# Altium footprint library hsbest.PcbLib: 389 footprints (part 10 of 25)
Each footprint in its own frame and in the unit in brackets; x right, y up, seen from the top. Pads: shape width x height; smd on the part's side, far side on the other; paste and mask are expansions set on the pad; w line width, h text height; cw(c..) or ccw(c..) is an arc to the next point about the centre after c.
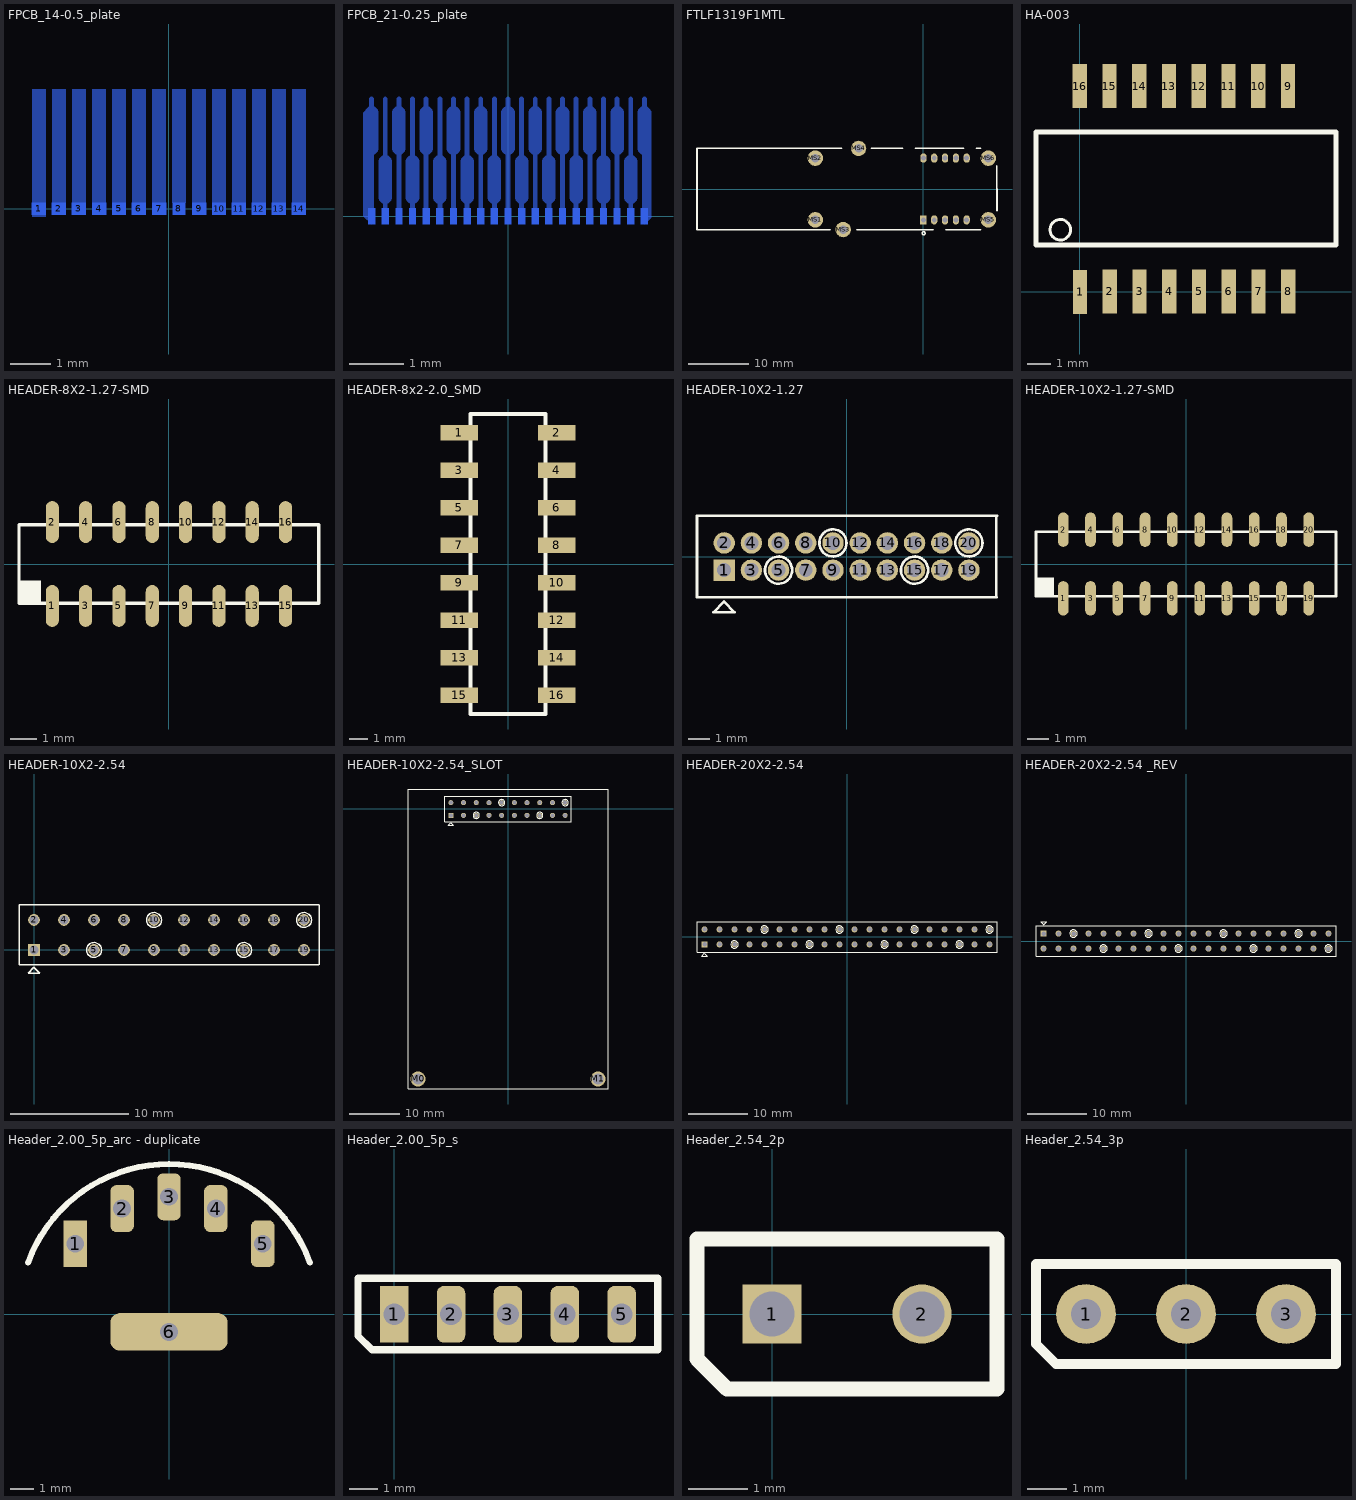
[diagram p9: the footprints below, top view; thin cyan lines are the x and y axes]

## FPCB_14-0.5_plate [mm]
pads (14):
  rect 0.35x0.3 smd far side: 1(-3.25,0) 2(-2.75,0) 3(-2.25,0) 4(-1.75,0) 5(-1.25,0) 6(-0.75,0) 7(-0.25,0) 9(0.75,0) 10(1.25,0) 11(1.75,0) 12(2.25,0) 13(2.75,0) 14(3.25,0)
  rect 0.32x0.3 smd far side: 8(0.25,0)
Bottom Layer:
  rectangle: 3.075,0.15 3.425,3
  rectangle: 2.575,0.15 2.925,3
  rectangle: 2.075,0.15 2.425,3
  rectangle: 1.575,0.15 1.925,3
  rectangle: 1.075,0.15 1.425,3
  rectangle: 0.575,0.15 0.925,3
  rectangle: 0.075,0.15 0.425,3
  rectangle: -0.425,0.15 -0.075,3
  rectangle: -0.925,0.15 -0.575,3
  rectangle: -1.425,0.15 -1.075,3
  rectangle: -1.925,0.15 -1.575,3
  rectangle: -2.425,0.15 -2.075,3
  rectangle: -2.925,0.15 -2.575,3
  rectangle: -3.425,-0.2 -3.075,3
Bottom Overlay:
  lines w0.09: -3.75,-2 3.75,-2 ; -3.75,-1.15 -3.75,3 ; 3.75,-1.15 3.75,3
Bottom Solder:
  rectangle: -3.7,0.25 3.75,3

## FPCB_21-0.25_plate [mm]
pads (21):
  rect 0.125x0.3 smd far side: 1(-2.5,0) 1(-2.25,0) 3(-2,0) 4(-1.75,0) 5(-1.5,0) 6(-1.25,0) 7(-1,0) 8(-0.75,0) 9(-0.5,0) 10(-0.25,0) 11(0,0) 12(0.25,0) 13(0.5,0) 14(0.75,0) 15(1,0) 16(1.25,0) 17(1.5,0) 18(1.75,0) 19(2,0) 20(2.25,0) 21(2.5,0)
Bottom Layer:
  region: 2.5,2.05 2.5,-0.15 2.625,-0.025 2.625,1.925
  region: -2.5,2.05 -2.65,1.9 -2.65,0 -2.5,-0.15
  lines w0.09: -2.5,0 -2.5,2.15 ; -2.25,0 -2.25,2.15 ; -2,0 -2,2.15 ; -1.75,0 -1.75,2.15 ; -1.5,0 -1.5,2.15 ; -1.25,0 -1.25,2.15 ; -1,0 -1,2.15 ; -0.75,0 -0.75,2.15 ; -0.5,0 -0.5,2.15 ; -0.25,0 -0.25,2.15 ; 0,0 0,2.15 ; 0.25,0 0.25,2.15 ; 0.5,0 0.5,2.15 ; 0.75,0 0.75,2.15 ; 1,0 1,2.15 ; 1.25,0 1.25,2.15 ; 1.5,0 1.5,2.15 ; 1.75,0 1.75,2.15 ; 2,0 2,2.15 ; 2.25,0 2.25,2.15 ; 2.5,0 2.5,2.15
  lines w0.25: -2.5,1.25 -2.5,1.9 ; -2.25,0.35 -2.25,1 ; -2,1.25 -2,1.9 ; -1.75,0.35 -1.75,1 ; -1.5,1.25 -1.5,1.9 ; -1.25,0.35 -1.25,1 ; -1,1.25 -1,1.9 ; -0.75,0.35 -0.75,1 ; -0.5,1.25 -0.5,1.9 ; -0.25,0.35 -0.25,1 ; 0,1.25 0,1.9 ; 0.25,0.35 0.25,1 ; 0.5,1.25 0.5,1.9 ; 0.75,0.35 0.75,1 ; 1,1.25 1,1.9 ; 1.25,0.35 1.25,1 ; 1.5,1.25 1.5,1.9 ; 1.75,0.35 1.75,1 ; 2,1.25 2,1.9 ; 2.25,0.35 2.25,1 ; 2.5,1.25 2.5,1.9
Bottom Overlay:
  lines w0.09: -2.75,-1.15 -2.75,2.15 ; -2.5,-1.15 2.5,-1.15 ; 2.75,-1.15 2.75,2.15
Bottom Solder:
  rectangle: -2.675,0.25 2.675,2.125

## FTLF1319F1MTL [mil]
pads (16):
  rect 42x60 hole 32 paste+0 mask+1.97: 1(0,-200)
  oval 40x60 hole 32 paste+0 mask+1.97: 2(70,-200) 3(140,-200) 4(210,-200) 5(280,-200) 6(280,200) 7(210,200) 8(140,200) 9(70,200) 10(0,200)
  round 100 hole 55 paste+0 mask+1.97: MS1(-700,-200) MS2(-700,200) MS3(-520,-262.5) MS4(-420,262.5) MS5(420,-200) MS6(420,200)
Top Overlay:
  circle w10: c0.98,-286.42 r10
  lines w10: -603.35,-265 -1466,-265 -1466,265 -527.56,265 ; -433.07,-265 63,-265 ; -338.58,265 -133.86,265 ; -51.18,265 259.85,265 ; 145.67,-265 372.58,-265 ; 342.52,265 372.58,265 ; 476,149.61 476.38,-140.75

## HA-003 [mil]
pads (16):
  rect 24x74 smd: 1(0.89,-0.42) 2(50.83,0.17) 3(100.83,0.17) 4(150.83,0.17) 5(200.83,0.17) 6(250.83,0.17) 7(300.83,0.17) 8(350.83,0.17) 9(350.28,345.13) 10(300.28,345.13) 11(250.28,345.13) 12(200.28,345.13) 13(150.28,345.13) 14(100.28,345.13) 15(50.28,345.13) 16(0.28,345.13)
Top Overlay:
  circle w5: c-32.35,103.88 r17.27
  lines w8: -73.14,78.41 430.89,78.41 430.89,268.07 -73.14,268.07 -73.14,78.41

## HEADER-8X2-1.27-SMD [mm]
pads (16):
  oval 0.5x1.6 smd: 1(-4.445,-1.6) 2(-4.445,1.6) 3(-3.175,-1.6) 4(-3.175,1.6) 5(-1.905,-1.6) 6(-1.905,1.6) 7(-0.635,-1.6) 8(-0.635,1.6) 9(0.635,-1.6) 10(0.635,1.6) 11(1.905,-1.6) 12(1.905,1.6) 13(3.175,-1.6) 14(3.175,1.6) 15(4.445,-1.6) 16(4.445,1.6)
Top Overlay:
  rectangle: -5.705,-1.5 -4.88,-0.625
  lines w0.125: -5.715,-1.5 -5.715,1.5 5.72,1.5 ; -5.705,-1.5 5.72,-1.5 ; 5.715,-1.5 5.715,1.5

## HEADER-8x2-2.0_SMD [mm]
pads (16):
  rect 2x0.8 smd: 1(-2.6,7) 2(2.6,7) 3(-2.6,5) 4(2.6,5) 5(-2.6,3) 6(2.6,3) 7(-2.6,1) 8(2.6,1) 9(-2.6,-1) 10(2.6,-1) 11(-2.6,-3) 12(2.6,-3) 13(-2.6,-5) 14(2.6,-5) 15(-2.6,-7) 16(2.6,-7)
Top Overlay:
  lines w0.2: -2,-8 2,-8 2,8 -2,8 -2,-8

## HEADER-10X2-1.27 [mm]
pads (20):
  rect 1x1 / inner round 1 / far side rect 1x1 hole 0.65: 1(-5.715,-0.635)
  round 1 hole 0.65: 2(-5.715,0.635) 3(-4.445,-0.635) 4(-4.445,0.635) 5(-3.175,-0.635) 6(-3.175,0.635) 7(-1.905,-0.635) 8(-1.905,0.635) 9(-0.635,-0.635) 10(-0.635,0.635) 11(0.635,-0.635) 12(0.635,0.635) 13(1.905,-0.635) 14(1.905,0.635) 15(3.175,-0.635) 16(3.175,0.635) 17(4.445,-0.635) 18(4.445,0.635) 19(5.715,-0.635) 20(5.715,0.635)
Top Overlay:
  circle w0.125: c5.715,0.635 r0.635
  circle w0.125: c3.175,-0.635 r0.635
  circle w0.125: c-0.635,0.635 r0.635
  circle w0.125: c-3.175,-0.635 r0.635
  lines w0.125: 6.985,-1.905 6.985,1.905 ; 7,-1.905 -6.985,-1.905 -6.985,1.905 7.025,1.905 ; -6.223,-2.604 -5.223,-2.604 -5.723,-2.104 -6.223,-2.604
Multi-Layer:
  lines w0.254: -6.35,0 6.325,0 ; -5.08,-1.27 -5.08,1.27 ; -3.81,-1.27 -3.81,1.27 ; -2.54,-1.27 -2.54,1.27 ; -1.27,-1.27 -1.27,1.27 ; 0,-1.27 0,1.27 ; 1.27,-1.27 1.27,1.27 ; 2.54,-1.27 2.54,1.27 ; 3.81,-1.27 3.81,1.27 ; 5.08,-1.27 5.08,1.27

## HEADER-10X2-1.27-SMD [mm]
pads (20):
  oval 0.5x1.6 smd: 1(-5.715,-1.6) 2(-5.715,1.6) 3(-4.445,-1.6) 4(-4.445,1.6) 5(-3.175,-1.6) 6(-3.175,1.6) 7(-1.905,-1.6) 8(-1.905,1.6) 9(-0.635,-1.6) 10(-0.635,1.6) 11(0.635,-1.6) 12(0.635,1.6) 13(1.905,-1.6) 14(1.905,1.6) 15(3.175,-1.6) 16(3.175,1.6) 17(4.445,-1.6) 18(4.445,1.6) 19(5.715,-1.6) 20(5.715,1.6)
Top Overlay:
  rectangle: -6.975,-1.5 -6.15,-0.625
  lines w0.125: -6.985,-1.5 -6.985,1.5 6.985,1.5 6.985,-1.5 -6.975,-1.5

## HEADER-10X2-2.54 [mm]
pads (20):
  rect 1x1 / inner round 1 / far side rect 1x1 hole 0.762: 1(0,0)
  round 1 hole 0.762: 2(0,2.54) 3(2.54,0) 4(2.54,2.54) 5(5.08,0) 6(5.08,2.54) 7(7.62,0) 8(7.62,2.54) 9(10.16,0) 10(10.16,2.54) 11(12.7,0) 12(12.7,2.54) 13(15.24,0) 14(15.24,2.54) 15(17.78,0) 16(17.78,2.54) 17(20.32,0) 18(20.32,2.54) 19(22.86,0) 20(22.86,2.54)
Top Overlay:
  circle w0.125: c5.08,0 r0.635
  circle w0.125: c10.16,2.54 r0.635
  circle w0.125: c17.78,0 r0.635
  circle w0.125: c22.86,2.54 r0.635
  lines w0.125: -1.27,3.825 -1.27,-1.27 24.1,-1.27 ; -1.25,3.81 24.125,3.81 ; 24.13,-1.25 24.13,3.81 ; -0.508,-1.969 -0.008,-1.469 0.492,-1.969 -0.508,-1.969

## HEADER-10X2-2.54_SLOT [mm]
pads (22):
  rect 1x1 / inner round 1 / far side rect 1x1 hole 0.762: 1(-11.43,-1.27)
  round 1 hole 0.762: 2(-11.43,1.27) 3(-8.89,-1.27) 4(-8.89,1.27) 5(-6.35,-1.27) 6(-6.35,1.27) 7(-3.81,-1.27) 8(-3.81,1.27) 9(-1.27,-1.27) 10(-1.27,1.27) 11(1.27,-1.27) 12(1.27,1.27) 13(3.81,-1.27) 14(3.81,1.27) 15(6.35,-1.27) 16(6.35,1.27) 17(8.89,-1.27) 18(8.89,1.27) 19(11.43,-1.27) 20(11.43,1.27)
  round 3 hole 2.2: M0(-18,-54) M1(18,-54)
Top Overlay:
  circle w0.125: c11.43,1.27 r0.635
  circle w0.125: c6.35,-1.27 r0.635
  circle w0.125: c-1.27,1.27 r0.635
  circle w0.125: c-6.35,-1.27 r0.635
  lines w0.125: -12.7,2.555 -12.7,-2.54 12.67,-2.54 ; -12.68,2.54 12.695,2.54 ; 12.7,-2.52 12.7,2.54 ; -20,-56 20,-56 20,4 -20,4 -20,-56 ; -11.938,-3.239 -10.938,-3.239 -11.438,-2.739 -11.938,-3.239

## HEADER-20X2-2.54 [mm]
pads (40):
  rect 1x1 / inner round 1 / far side rect 1x1 hole 0.762: 1(-24.13,-1.27)
  round 1 hole 0.762: 2(-24.13,1.27) 3(-21.59,-1.27) 4(-21.59,1.27) 5(-19.05,-1.27) 6(-19.05,1.27) 7(-16.51,-1.27) 8(-16.51,1.27) 9(-13.97,-1.27) 10(-13.97,1.27) 11(-11.43,-1.27) 12(-11.43,1.27) 13(-8.89,-1.27) 14(-8.89,1.27) 15(-6.35,-1.27) 16(-6.35,1.27) 17(-3.81,-1.27) 18(-3.81,1.27) 19(-1.27,-1.27) 20(-1.27,1.27) 21(1.27,-1.27) 22(1.27,1.27) 23(3.81,-1.27) 24(3.81,1.27) 25(6.35,-1.27) 26(6.35,1.27) 27(8.89,-1.27) 28(8.89,1.27) 29(11.43,-1.27) 30(11.43,1.27) 31(13.97,-1.27) 32(13.97,1.27) 33(16.51,-1.27) 34(16.51,1.27) 35(19.05,-1.27) 36(19.05,1.27) 37(21.59,-1.27) 38(21.59,1.27) 39(24.13,-1.27) 40(24.13,1.27)
Top Overlay:
  circle w0.125: c-19.05,-1.27 r0.635
  circle w0.125: c-13.97,1.27 r0.635
  circle w0.125: c-6.35,-1.27 r0.635
  circle w0.125: c-1.27,1.27 r0.635
  circle w0.125: c11.43,1.27 r0.635
  circle w0.125: c6.35,-1.27 r0.635
  circle w0.125: c24.13,1.27 r0.635
  circle w0.125: c19.05,-1.27 r0.635
  lines w0.125: -25.4,-2.545 25.4,-2.545 25.4,2.555 -25.4,2.555 -25.4,-2.545 ; -24.638,-3.239 -24.138,-2.739 -23.638,-3.239 -24.638,-3.239

## HEADER-20X2-2.54 _REV [mm]
pads (40):
  rect 1x1 / inner round 1 / far side rect 1x1 hole 0.762: 1(-24.13,1.27)
  round 1 hole 0.762: 2(-24.13,-1.27) 3(-21.59,1.27) 4(-21.595,-1.27) 5(-19.05,1.27) 6(-19.055,-1.27) 7(-16.51,1.27) 8(-16.515,-1.27) 9(-13.97,1.27) 10(-13.975,-1.27) 11(-11.43,1.27) 12(-11.435,-1.27) 13(-8.89,1.27) 14(-8.895,-1.27) 15(-6.35,1.27) 16(-6.355,-1.27) 17(-3.81,1.27) 18(-3.815,-1.27) 19(-1.27,1.27) 20(-1.275,-1.27) 21(1.27,1.27) 22(1.265,-1.27) 23(3.81,1.27) 24(3.805,-1.27) 25(6.35,1.27) 26(6.345,-1.27) 27(8.89,1.27) 28(8.885,-1.27) 29(11.43,1.27) 30(11.425,-1.27) 31(13.97,1.27) 32(13.965,-1.27) 33(16.51,1.27) 34(16.505,-1.27) 35(19.05,1.27) 36(19.045,-1.27) 37(21.59,1.27) 38(21.585,-1.27) 39(24.13,1.27) 40(24.125,-1.27)
Top Overlay:
  circle w0.125: c19.05,1.27 r0.635
  circle w0.125: c24.125,-1.27 r0.635
  circle w0.125: c6.35,1.27 r0.635
  circle w0.125: c11.425,-1.27 r0.635
  circle w0.125: c-1.275,-1.27 r0.635
  circle w0.125: c-6.35,1.27 r0.635
  circle w0.125: c-13.975,-1.27 r0.635
  circle w0.125: c-19.05,1.27 r0.635
  lines w0.125: -25.4,-2.545 -25.4,2.555 25.4,2.555 25.4,-2.545 -25.4,-2.545 ; -24.622,3.239 -23.622,3.239 -24.122,2.739 -24.622,3.239

## Header_2.00_5p_arc - duplicate [mm]
pads (6):
  rect 1x2 hole 0.762: 1(-4,3)
  rrect50% 1x2 hole 0.762: 2(-2,4.5) 3(0,5) 4(2,4.5) 5(4,3)
  rrect50% 5x1.6 hole 0.762: 6(0,-0.762)
Top Overlay:
  lines w0.254: -6.014,2.189 cw(c0,0) 6.014,2.189

## Header_2.00_5p_s [mm]
pads (5):
  rect 1x2 hole 0.762: 1(0,0)
  rrect50% 1x2 hole 0.762: 2(2,0) 3(4,0) 4(6,0) 5(8,0)
Top Overlay:
  lines w0.254: 9.27,1.27 9.27,-1.25 -0.782,-1.25 -1.27,-0.762 -1.27,1.27 9.275,1.27

## Header_2.54_2p [mm]
pads (2):
  rect 1x1 hole 0.762: 1(0,0)
  round 1 hole 0.762: 2(2.54,0)
Top Overlay:
  lines w0.254: -1.27,-0.762 -1.27,1.27 3.81,1.27 3.81,-1.27 -0.762,-1.27 -1.27,-0.762

## Header_2.54_3p [mil]
pads (3):
  round 60 hole 30: 1(-100,0) 2(0,0) 3(100,0)
Top Overlay:
  lines w10: -150,-30 -130,-50 150,-50 150,50 -150,50 -150,-30